# Altium footprint library PcbLib1.PcbLib: 21 footprints (part 2 of 2)
Each footprint in its own frame and in the unit in brackets; x right, y up, seen from the top. Pads: shape width x height; smd on the part's side, far side on the other; paste and mask are expansions set on the pad; w line width, h text height; cw(c..) or ccw(c..) is an arc to the next point about the centre after c.
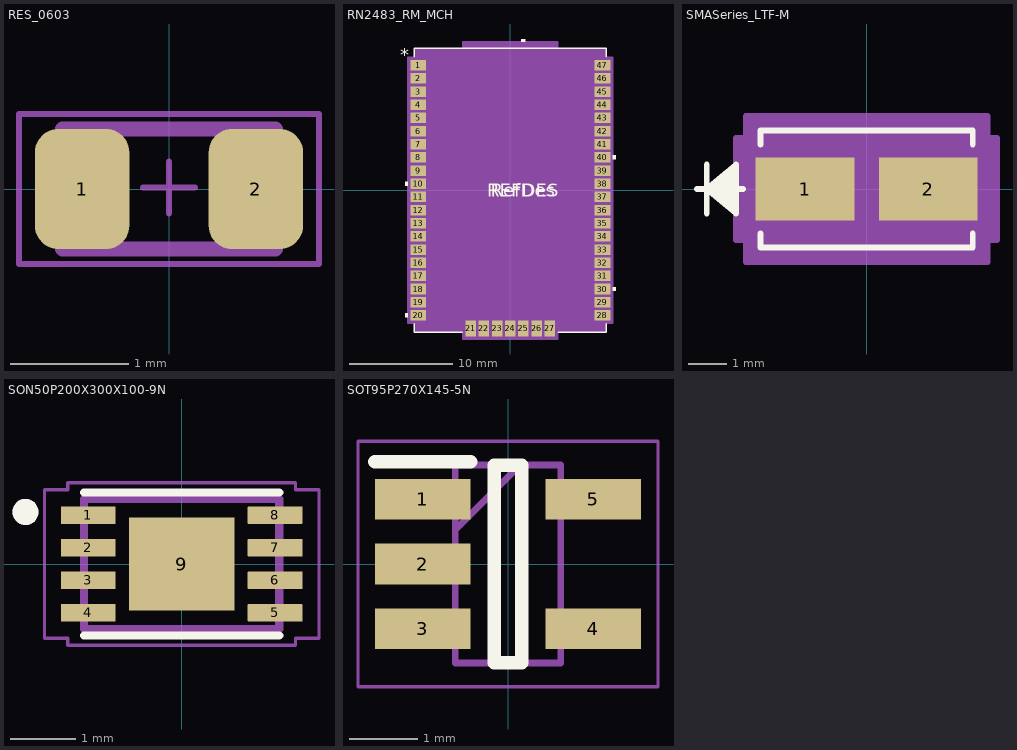
[diagram p1: the footprints below, top view; thin cyan lines are the x and y axes]

## RES_0603 [mm]
height 1.3
pads (2):
  rrect50% 0.8x1.02 smd mask+0.05: 1(-0.735,0) 2(0.735,0)
Top Assembly:
  lines w0.127: -0.9,-0.51 0.9,-0.51 0.9,0.51 -0.9,0.51 -0.9,-0.51
Top Courtyard:
  lines w0.05: -1.27,-0.635 1.27,-0.635 1.27,0.635 -1.27,0.635 -1.27,-0.635
Top Component Center:
  lines w0.05: -0.22,0.012 0.22,0.012 ; 0,-0.208 0,0.232
3D body "step_temp.STEP": height 0.55, standoff 0, extent -0.8,-0.4 0.8,0.4

## RN2483_RM_MCH [mil]
pads (47):
  rect 60x40 smd paste-20 mask+0: 1(-350,475) 2(-350,425) 3(-350,375) 4(-350,325) 5(-350,275) 6(-350,225) 7(-350,175) 8(-350,125) 9(-350,75) 10(-350,25) 11(-350,-25) 12(-350,-75) 13(-350,-125) 14(-350,-175) 15(-350,-225) 16(-350,-275) 17(-350,-325) 18(-350,-375) 19(-350,-425) 20(-350,-475) 28(350,-475) 29(350,-425) 30(350,-375) 31(350,-325) 32(350,-275) 33(350,-225) 34(350,-175) 35(350,-125) 36(350,-75) 37(350,-25) 38(350,25) 39(350,75) 40(350,125) 41(350,175) 42(350,225) 43(350,275) 44(350,325) 45(350,375) 46(350,425) 47(350,475)
  rect 40x60 smd paste-20 mask+0: 21(-150,-525) 22(-100,-525) 23(-50,-525) 24(0,-525) 25(50,-525) 26(100,-525) 27(150,-525)
Top Overlay:
  region: 57.5,565 42.5,565 42.5,575 57.5,575
  region: 390,132.5 400,132.5 400,117.5 390,117.5
  region: 390,-367.5 400,-367.5 400,-382.5 390,-382.5
  region: -390,-467.5 -400,-467.5 -400,-482.5 -390,-482.5
  region: -390,32.5 -400,32.5 -400,17.5 -390,17.5
  lines w6: -365,-508.1 -365,-540 -183.1,-540 ; -365,508.1 -365,540 365,540 365,508.1 ; 183.1,-540 365,-540 365,-508.1
  text "REFDES" at -87.5,-25 h50
  text "RefDes" at -75,-25 h50
  text "*" at -417.5,490 h50
Mechanical 13:
  lines w1: -350,475 -300,525 ; -350,-525 -350,525 350,525 350,-525 -350,-525
  text "RefDes2" at -87.5,-25 h50
  text "*" at -322.5,475 h50
Mechanical 15:
  region: -180,-535 -360,-535 -360,-505 -390,-505 -390,505 -360,505 -360,535 -180,535 -180,565 180,565 180,535 360,535 360,505 390,505 390,-505 360,-505 360,-535 180,-535 180,-565 -180,-565
  lines w6: -390,-505 -390,505 -360,505 -360,535 -180,535 -180,565 180,565 180,535 360,535 360,505 390,505 390,-505 360,-505 360,-535 180,-535 180,-565 -180,-565 -180,-535 -360,-535 -360,-505 -390,-505
3D body "RN2483_RM_MCH.step": height 132.09, standoff 0, extent -352.01,-527.01 352.01,527.01

## SMASeries_LTF-M [mil]
pads (2):
  rect 101.34x65 smd paste+0 mask+0: 1(-63.17,0) 2(63.17,0)
Top Overlay:
  lines w6: -174,0 -126.94,0 ; -164,-25 -164,25 ; -134,-20 -164,0 ; -134,-15 -164,0 ; -134,-10 -164,0 ; -134,-5 -164,0 ; -134,5 -164,0 ; -134,10 -164,0 ; -134,15 -164,0 ; -134,20 -164,0 ; -109,-45.6 -109,-60 109,-60 109,-45.6 ; -109,45.6 -109,60 109,60 109,45.6 ; -164,0 -134,25 -134,-25 -164,0
Top Assembly:
  lines w1: -174,0 -124,0 ; -164,-25 -164,25 ; -134,-20 -164,0 ; -134,-15 -164,0 ; -134,-10 -164,0 ; -134,-5 -164,0 ; -134,5 -164,0 ; -134,10 -164,0 ; -134,15 -164,0 ; -134,20 -164,0 ; -164,0 -134,25 -134,-25 -164,0 ; -104,-55 104,-55 104,55 -104,55 -104,-55
Top Courtyard:
  region: -124,-52.5 -133.84,-52.5 -133.84,52.5 -124,52.5 -124,75 124,75 124,52.5 133.84,52.5 133.84,-52.5 124,-52.5 124,-75 -124,-75
  lines w6: -133.84,-52.5 -133.84,52.5 -124,52.5 -124,75 124,75 124,52.5 133.84,52.5 133.84,-52.5 124,-52.5 124,-75 -124,-75 -124,-52.5 -133.84,-52.5
3D body "SMASeries_LTF.step": height 92.01, standoff 0, extent -104.02,-55 104.02,55

## SON50P200X300X100-9N [mm]
pads (9):
  rrect7% 0.84x0.27 smd mask+0.05: 1(-1.435,0.75) 2(-1.435,0.25) 3(-1.435,-0.25) 4(-1.435,-0.75) 5(1.435,-0.75) 6(1.435,-0.25) 7(1.435,0.25) 8(1.435,0.75)
  rect 1.625x1.425 smd paste-2 mask+0.05: 9(0,0)
Top Overlay:
  circle w0.2: c-2.4,0.8 r0.1
  lines w0.127: -1.5,-1.099 1.5,-1.099 ; -1.5,1.099 1.5,1.099
Top Paste:
  region: 0.665,-0.49 0.075,-0.49 0.075,0.49 0.665,0.49
  region: -0.075,-0.49 -0.665,-0.49 -0.665,0.49 -0.075,0.49
Top Assembly:
  circle w0.2: c-2.4,0.8 r0.1
  lines w0.127: -1.5,-1 1.5,-1 1.5,1 -1.5,1 -1.5,-1
Top Courtyard:
  lines w0.05: -2.11,-1.14 -2.11,1.14 -1.75,1.14 -1.75,1.25 1.75,1.25 1.75,1.14 2.11,1.14 2.11,-1.14 1.75,-1.14 1.75,-1.25 -1.75,-1.25 -1.75,-1.14 -2.11,-1.14
3D body "step_temp.STEP": height 1, standoff 0, extent -1.5,-1 1.5,1

## SOT95P270X145-5N [mm]
pads (5):
  rect 1.4x0.6 smd: 1(-1.25,0.95) 2(-1.25,0) 3(-1.25,-0.95) 4(1.25,-0.95) 5(1.25,0.95)
Top Overlay:
  lines w0.2: -1.95,1.5 -0.55,1.5 ; -0.2,-1.45 0.2,-1.45 0.2,1.45 -0.2,1.45 -0.2,-1.45
Mechanical 15:
  lines w0.1: -0.775,0.5 0.175,1.45 ; -0.775,-1.45 0.775,-1.45 0.775,1.45 -0.775,1.45 -0.775,-1.45
Mechanical 20:
  lines w0.05: -2.2,-1.8 2.2,-1.8 2.2,1.8 -2.2,1.8 -2.2,-1.8
3D body "MCP73831T-2ACI_OT.stp": height 1.45, standoff 0, extent -1.35,-1.45 1.35,1.45